# EAGLE library part MCP2562-E/P (library MCP2562)
Digikey Part Number: MCP2562-E/P-ND
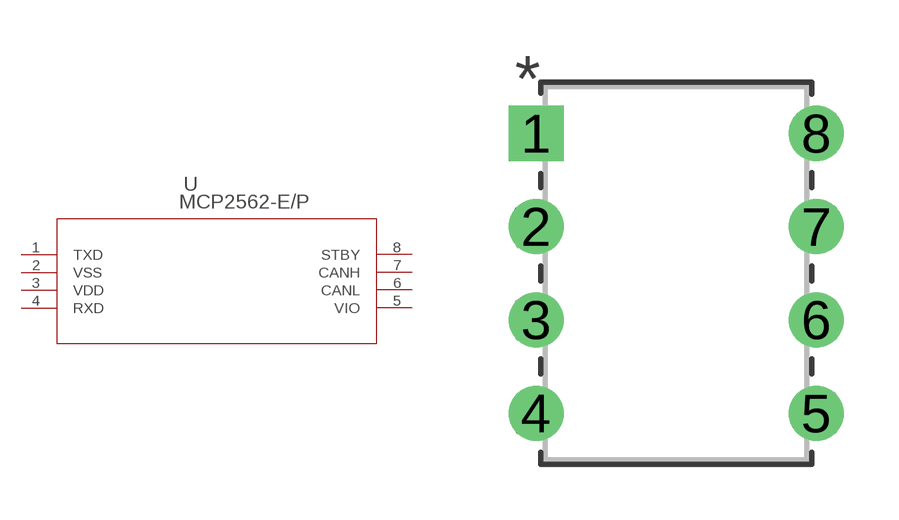
[diagram p0: symbol with the pads of PDIP8_300MC; footprint PDIP8_300MC]

Designator prefix U

## MCP2562-E/P (MANUFACTURER_PART_NUMBER: MCP2562EP; VENDOR: MICROCHIP)  [PDIP8_300MC]
1  TXD  in
2  VSS  pwr
3  VDD  pwr
4  RXD  out
5  VIO  pas
6  CANL
7  CANH
8  STBY  in

## Footprint PDIP8_300MC (pad centres in mm)
drill 0.991 pad 1.499 square: 1 -7.62,7.62
drill 0.991 pad 1.499: 2 -7.62,5.08; 3 -7.62,2.54; 4 -7.62,0; 5 0,0; 6 0,2.54; 7 0,5.08; 8 0,7.62